# Altium schematic symbol library Antenna_Library.SchLib: 1 symbol
Pins are listed as number, name and electrical type; pins without a type are passive.

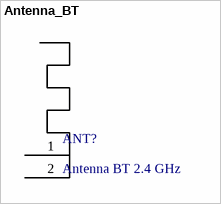
[diagram p0: symbol Antenna_BT]

## Antenna_BT
designator ANT?, comment Antenna BT 2.4 GHz
Antenna BT 2.4 GHz / 50 Ohms impedance
footprint Atenna_BT (2.4 GHz)
pins: 1, 2